# Altium schematic symbol library Switches.SchLib: 2 symbols
Pins are listed as number, name and electrical type; pins without a type are passive.

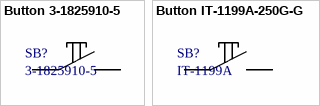
[diagram p0: symbols Button 3-1825910-5 to Button IT-1199A-250G-G]

## Button 3-1825910-5
designator SB?, comment 3-1825910-5
KLS7-TS6601-8.5-180, Кнопка тактовая h=8.5мм; Manufacture: TE Connectivity ALCOSWITCH Switches; Case: 6mm x 6mm; HelpURL: https://www.digikey.com/en/products/detail/te-connectivity-alcoswitch-switches/3-1825910-5/1632530; Model: 3-1825910-5; Value: 3-1825910-5; Name: Кнопка тактовая
footprint 3-1825910-5
pins: 1, 2

## Button IT-1199A-250G-G
designator SB?, comment IT-1199A
Manufacture: SWITR; Model: IT-1199A-250G-G; Name: Кнопка тактовая; Case: *; HelpURL: https://www.compel.ru/infosheet/SWITR/IT-1199A-250G-G%20T%26R; Value: IT-1199A
footprint IT-1199A-250G-G
pins: 1, 2